# Altium footprint library B_UN_C.PcbLib: 17 footprints (part 2 of 2)
Each footprint in its own frame and in the unit in brackets; x right, y up, seen from the top. Pads: shape width x height; smd on the part's side, far side on the other; paste and mask are expansions set on the pad; w line width, h text height; cw(c..) or ccw(c..) is an arc to the next point about the centre after c.
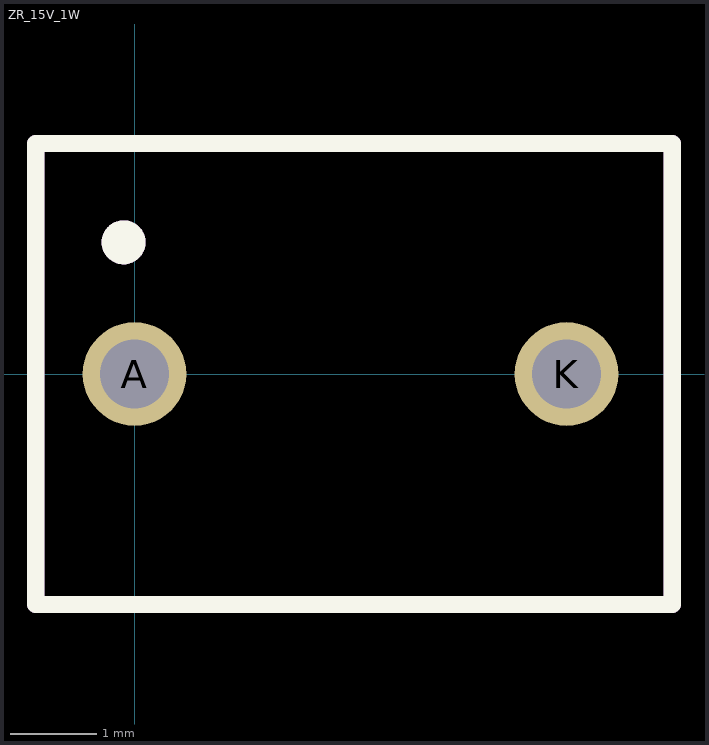
[diagram p1: the footprint, top view; thin cyan lines are the x and y axes]

## ZR_15V_1W [mm]
pads (2):
  round 1.2 hole 0.8: A(0,0) K(5,0)
Top Overlay:
  circle w0.254: c-0.127,1.524 r0.127
  lines w0.2: -1.143,-2.667 -1.143,0 -1.143,2.667 6.223,2.667 6.223,-2.667 -1.143,-2.667
Mechanical 1:
  circle w0.254: c-0.127,1.524 r0.127
  lines w0.2: -1.143,-2.667 6.223,-2.667 6.223,2.667 -1.143,2.667 -1.143,-2.667
Mechanical 2:
  text ".Designator" at -0.635,-0.889 h1.52